# Altium integrated library LARS_409_LED.Library.IntLib: 7 symbols
Pins are listed as number, name and electrical type; pins without a type are passive.

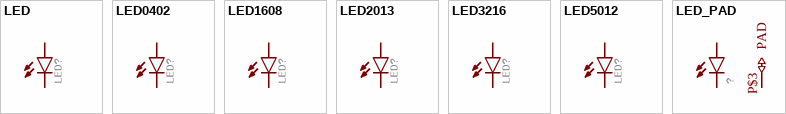
[diagram p0: symbols LED to LED_PAD]

## LED
designator LED?
GateName_1: G$1; SymbolName_1: LED; LibraryName: LARS_409_LED; DeviceSetName: LED; Package: DRP
footprint DRP
pins: P$1 A, P$2 C

## LED0402
designator LED?
GateName_1: G$1; SymbolName_1: LED; DeviceName: 0402; LibraryName: LARS_409_LED; DeviceSetName: LED; Package: 0402
footprint 0402
pins: 1 C, 2 A

## LED1608
designator LED?
GateName_1: G$1; SymbolName_1: LED; DeviceName: 1608; LibraryName: LARS_409_LED; DeviceSetName: LED; Package: 0603
footprint 0603
pins: P$1 C, P$2 A

## LED2013
designator LED?
GateName_1: G$1; SymbolName_1: LED; DeviceName: 2013; LibraryName: LARS_409_LED; DeviceSetName: LED; Package: 0805
footprint 0805
pins: P$1 C, P$2 A

## LED3216
designator LED?
GateName_1: G$1; SymbolName_1: LED; DeviceName: 3216; LibraryName: LARS_409_LED; DeviceSetName: LED; Package: 1206
footprint 1206
pins: P$1 C, P$2 A

## LED5012
designator LED?
GateName_1: G$1; SymbolName_1: LED; DeviceName: 5012; LibraryName: LARS_409_LED; DeviceSetName: LED; Package: 5012
footprint 5012
pins: P$3 A, P$4 C

## LED_PAD
designator ?
GateName_1: G$1; SymbolName_1: LED_PAD; LibraryName: LARS_409_LED; DeviceSetName: LED_PAD; Package: DRP
footprint DRP
pins: P$1 A, P$2 C, P$3 PAD (io)